# Altium footprint library lmx2572.PcbLib: 6 footprints
Each footprint in its own frame and in the unit in brackets; x right, y up, seen from the top. Pads: shape width x height; smd on the part's side, far side on the other; paste and mask are expansions set on the pad; w line width, h text height; cw(c..) or ccw(c..) is an arc to the next point about the centre after c.
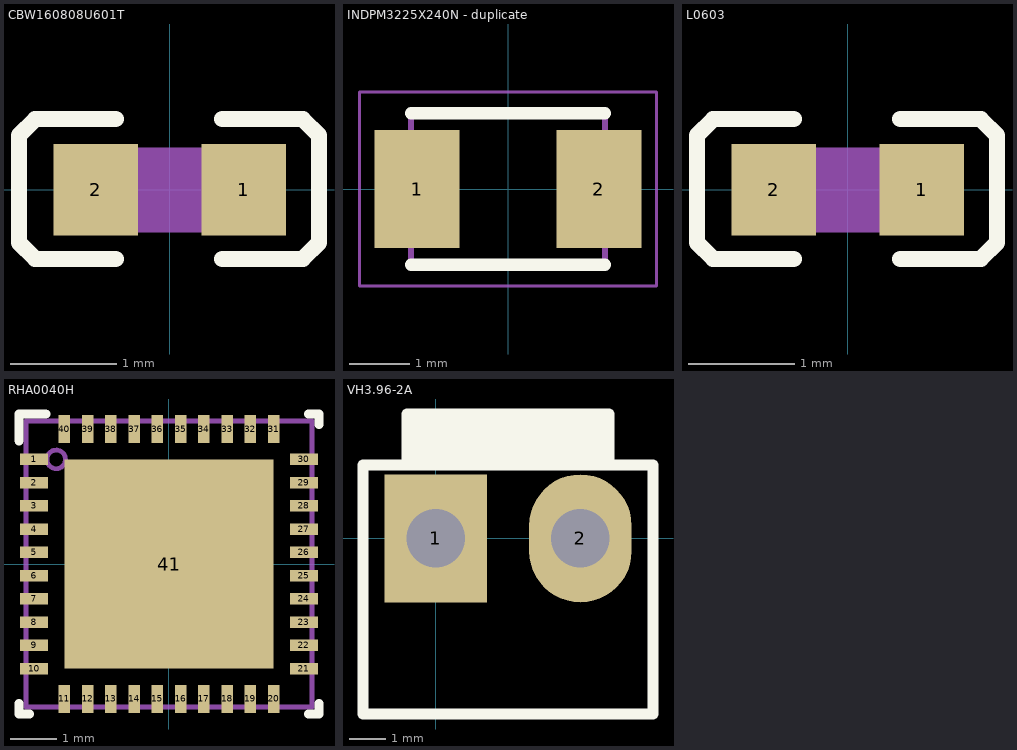
[diagram p0: the footprints below, top view; thin cyan lines are the x and y axes]

## CBW160808U601T [mm]
pads (2):
  rect 0.8x0.864 smd: 1(0.7,0) 2(-0.7,0)
Top Overlay:
  lines w0.152: -0.51,-0.651 -1.272,-0.651 -1.424,-0.499 -1.424,0.517 -1.272,0.67 -0.51,0.67 ; 0.496,-0.651 1.258,-0.651 1.411,-0.499 1.411,0.517 1.258,0.67 0.496,0.67
Top Paste:
  region: -0.252,0.143 -0.252,-0.134 -0.526,-0.427 -1.029,-0.427 -1.093,-0.363 -1.093,0.373 -1.029,0.437 -0.526,0.437
  region: 0.264,0.154 0.264,-0.122 0.538,-0.416 1.042,-0.416 1.106,-0.352 1.106,0.384 1.042,0.448 0.538,0.448
Mechanical 4:
  region: 0.8,-0.4 -0.8,-0.4 -0.8,0.4 0.8,0.4
Mechanical 5:
  region: 0.8,-0.4 0.5,-0.4 0.5,0.4 0.8,0.4
  region: -0.5,-0.4 -0.8,-0.4 -0.8,0.4 -0.5,0.4

## INDPM3225X240N - duplicate [mm]
pads (2):
  rect 1.4x1.95 smd: 1(-1.5,0) 2(1.5,0)
Top Overlay:
  lines w0.2: -1.6,-1.25 1.6,-1.25 ; -1.6,1.25 1.6,1.25
Mechanical 13:
  lines w0.1: -1.6,-1.25 1.6,-1.25 1.6,1.25 -1.6,1.25 -1.6,-1.25
Mechanical 15:
  lines w0.05: -2.45,-1.6 2.45,-1.6 2.45,1.6 -2.45,1.6 -2.45,-1.6
3D body "NLFV32T-100K-EF.stp": height 2.4, standoff 0, extent -1.6,-1.25 1.6,1.25

## L0603 [mm]
pads (2):
  rect 0.8x0.864 smd: 1(0.7,0) 2(-0.7,0)
Top Overlay:
  lines w0.152: -0.51,-0.651 -1.272,-0.651 -1.424,-0.499 -1.424,0.517 -1.272,0.67 -0.51,0.67 ; 0.496,-0.651 1.258,-0.651 1.411,-0.499 1.411,0.517 1.258,0.67 0.496,0.67
Top Paste:
  region: 0.264,0.154 0.264,-0.122 0.538,-0.416 1.042,-0.416 1.106,-0.352 1.106,0.384 1.042,0.448 0.538,0.448
  region: -0.252,0.143 -0.252,-0.134 -0.526,-0.427 -1.029,-0.427 -1.093,-0.363 -1.093,0.373 -1.029,0.437 -0.526,0.437
Mechanical 4:
  region: 0.8,-0.4 -0.8,-0.4 -0.8,0.4 0.8,0.4
Mechanical 5:
  region: -0.5,-0.4 -0.8,-0.4 -0.8,0.4 -0.5,0.4
  region: 0.8,-0.4 0.5,-0.4 0.5,0.4 0.8,0.4

## PCBComponent_1 [mm]

## RHA0040H [mm]
pads (41):
  rect 0.6x0.25 smd paste+0 mask+0: 1(-2.9,2.25) 2(-2.9,1.75) 3(-2.9,1.25) 4(-2.9,0.75) 5(-2.9,0.25) 6(-2.9,-0.25) 7(-2.9,-0.75) 8(-2.9,-1.25) 9(-2.9,-1.75) 10(-2.9,-2.25) 21(2.9,-2.25) 22(2.9,-1.75) 23(2.9,-1.25) 24(2.9,-0.75) 25(2.9,-0.25) 26(2.9,0.25) 27(2.9,0.75) 28(2.9,1.25) 29(2.9,1.75) 30(2.9,2.25)
  rect 0.25x0.6 smd paste+0 mask+0: 11(-2.25,-2.9) 12(-1.75,-2.9) 13(-1.25,-2.9) 14(-0.75,-2.9) 15(-0.25,-2.9) 16(0.25,-2.9) 17(0.75,-2.9) 18(1.25,-2.9) 19(1.75,-2.9) 20(2.25,-2.9) 31(2.25,2.9) 32(1.75,2.9) 33(1.25,2.9) 34(0.75,2.9) 35(0.25,2.9) 36(-0.25,2.9) 37(-0.75,2.9) 38(-1.25,2.9) 39(-1.75,2.9) 40(-2.25,2.9)
  rect 4.5x4.5 smd paste-2.237 mask+0: 41(0,0)
Top Overlay:
  lines w0.2: -3.225,-3 -3.225,-3.225 -3,-3.225 ; -3.225,2.65 -3.225,3.225 -2.65,3.225 ; 3,-3.225 3.225,-3.225 3.225,-3 ; 3,3.225 3.225,3.225 3.225,3
Top Paste:
  drawing of 9 lines, arcs and shapes, not listed
Mechanical 13:
  circle w0.1: c-2.425,2.25 r0.2
  lines w0.1: -3.075,-3.075 -3.075,3.075 3.075,3.075 3.075,-3.075 -3.075,-3.075
3D body: height 0.25, standoff 0, extent 0,0 0.254,0.254
3D body "RHA0040H.stp": height 1, standoff 0, extent -3.002,-2.992 2.998,3.008

## VH3.96-2A [mm]
pads (2):
  rect 2.8x3.5 hole 1.6: 1(0,0)
  oval 2.8x3.5 hole 1.6: 2(3.96,0)
Top Overlay:
  lines w0.3: -0.78,2 -0.78,3.4 4.74,3.4 4.74,2 ; -0.78,2.286 4.74,2.286 ; -0.78,2.413 4.74,2.413 ; -0.78,2.667 4.74,2.667 ; -0.78,2.921 4.74,2.921 ; -0.78,3.175 4.74,3.175 ; -1.98,-4.8 -1.98,2 5.94,2 5.94,-4.8 -1.98,-4.8
3D body "VH3.96-2A.STEP": height 14.6, standoff -3.6, extent -1.98,-4.8 5.94,3.6